# Altium footprint library EVPAA002K.PcbLib: 1 footprints
Each footprint in its own frame and in the unit in brackets; x right, y up, seen from the top. Pads: shape width x height; smd on the part's side, far side on the other; paste and mask are expansions set on the pad; w line width, h text height; cw(c..) or ccw(c..) is an arc to the next point about the centre after c.
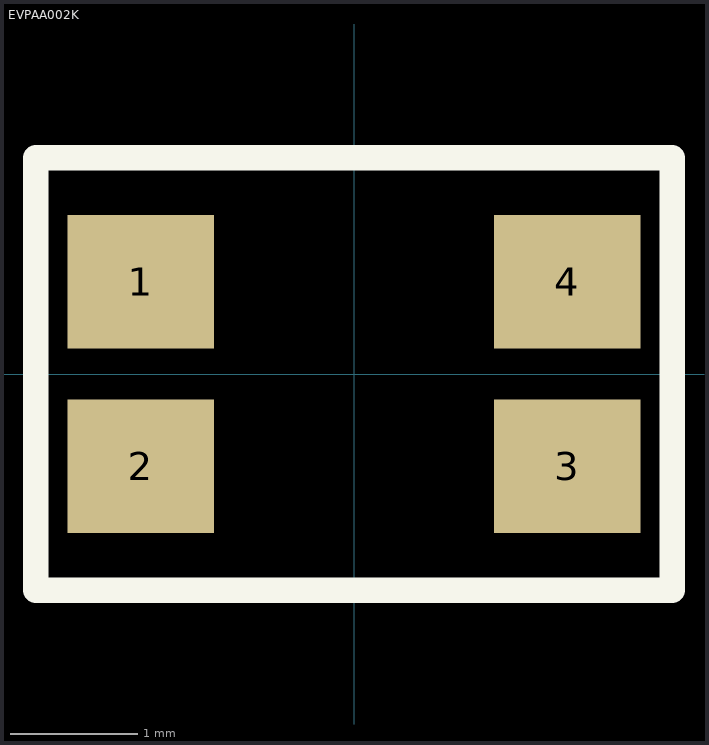
[diagram p0: the footprint, top view; thin cyan lines are the x and y axes]

## EVPAA002K [mm] "Light Touch Switches"
height 1.7
pads (4):
  rect 1.15x1.05 smd: 1(-1.675,0.725) 2(-1.675,-0.725) 3(1.675,-0.725) 4(1.675,0.725)
Top Overlay:
  lines w0.2: -2.5,-1.7 -2.5,1.7 2.5,1.7 2.5,-1.7 -2.5,-1.7
3D body "EVPAA-002K_202K_402W_602W_802Q.STEP": height 1.7, standoff 0, extent -2.15,-1.555 2.15,1.555